# Altium footprint library lianche_noBOM_lib.PcbLib: 26 footprints (part 1 of 2)
Each footprint in its own frame and in the unit in brackets; x right, y up, seen from the top. Pads: shape width x height; smd on the part's side, far side on the other; paste and mask are expansions set on the pad; w line width, h text height; cw(c..) or ccw(c..) is an arc to the next point about the centre after c.
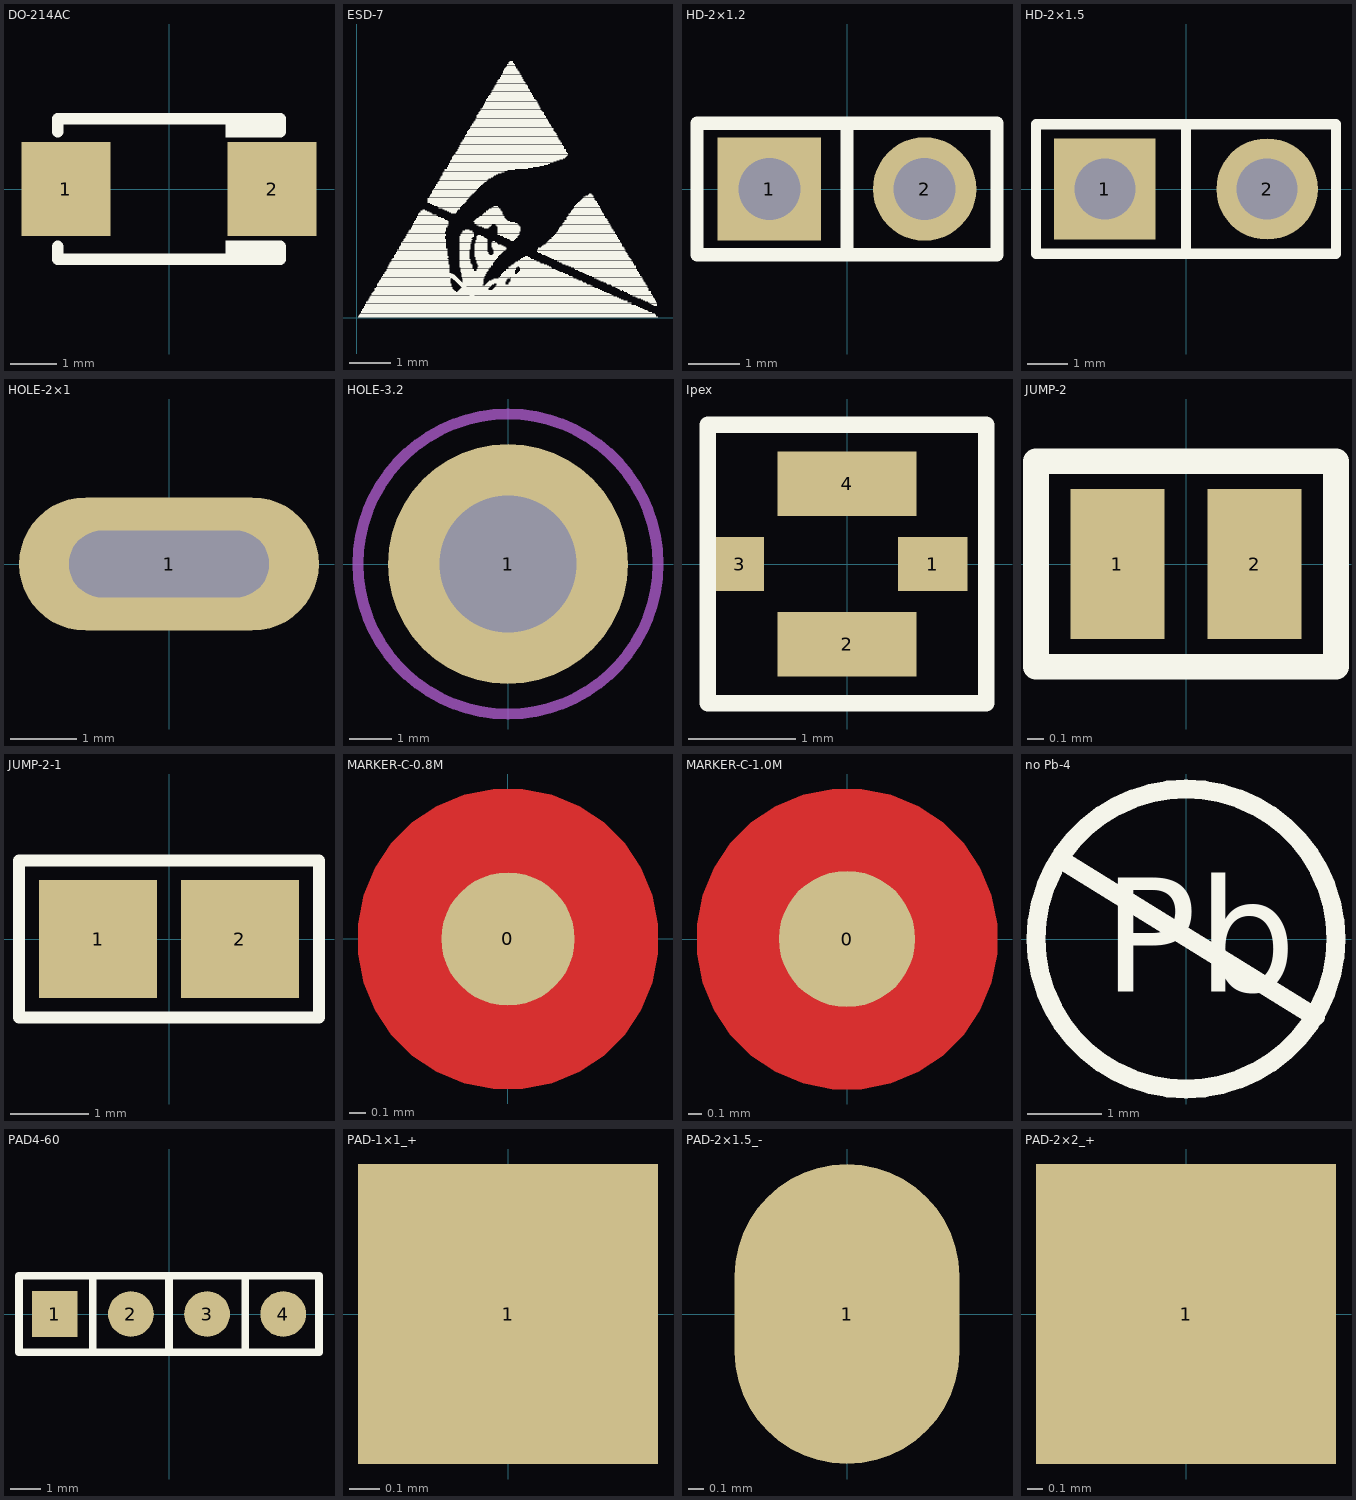
[diagram p0: the footprints below, top view; thin cyan lines are the x and y axes]

## DO-214AC [mil] "121025"
height 280
pads (2):
  rect 76x80 smd: 1(-88,0) 2(88,0)
Top Overlay:
  rectangle: 48,44.06 95,60.06
  rectangle: 48,-59.94 95,-43.94
  lines w10: -95,-49 -95,-60 95,-60 95,-49 ; -95,49 -95,60 95,60 95,49
3D body "DO-214AC.STEP": height 94.49, standoff 0, extent -91.52,-53.55 89.58,52.75

## ESD-7 [mil]
height 7.87
Top Overlay:
  drawing of 546 lines, arcs and shapes, not listed

## HD-2×1.2 [mm]
height 3
pads (2):
  rect 2x2 hole 1.2: 1(-1.5,0)
  round 2 hole 1.2: 2(1.5,0)
Top Overlay:
  lines w0.254: 0,-1.27 0,1.27 ; -2.9,-1.27 -2.9,1.27 2.9,1.27 2.9,-1.27 -2.9,-1.27

## HD-2×1.5 [mm]
height 3
pads (2):
  rect 2.5x2.5 hole 1.5: 1(-2,0)
  round 2.5 hole 1.5: 2(2,0)
Top Overlay:
  lines w0.254: 0,-1.6 0,1.6 ; -3.7,-1.6 3.7,-1.6 3.7,1.6 -3.7,1.6 -3.7,-1.6

## HOLE-2×1 [mm]
pads (1):
  oval 4.5x2 hole 1 slot 3 at 0 deg: 1(0,0)

## HOLE-3.2 [mm]
height 7.112
pads (1):
  round 5.6 hole 3.2: 1(0,0)
Mechanical 15:
  circle w0.254: c0,0 r3.5

## Ipex [mm]
pads (4):
  rect 0.65x0.5 smd: 1(0.8,0)
  rect 1.3x0.6 smd: 2(0,-0.75) 4(0,0.75)
  rect 0.45x0.5 smd: 3(-1,0)
Top Overlay:
  lines w0.15: -1.3,-1.3 -1.3,1.3 1.3,1.3 1.3,-1.3 -1.3,-1.3

## JUMP-2 [mil]
height 275.59
pads (2):
  rect 22x35 smd paste-23.62: 1(-16,0) 2(16,0)
Top Overlay:
  lines w6: -35,-24 35,-24 35,24 -35,24 -35,-24

## JUMP-2-1 [mm] "1.5"
height 1
pads (2):
  rect 1.5x1.5 smd paste-0.6: 1(-0.9,0) 2(0.9,0)
Top Overlay:
  lines w0.152: -1.905,-1 -1.905,1 1.905,1 1.905,-1 -1.905,-1

## MARKER-C-0.8M [mm]
height 1.1
pads (1):
  round 0.8 smd paste-1.016 mask+0.4: 0(0,0)
Top Layer:
  pour cut-out: -0.9,0 -0.9,-0.089 -0.865,-0.263 -0.798,-0.426 -0.699,-0.574 -0.574,-0.699 -0.426,-0.798 -0.263,-0.865 -0.089,-0.9 0,-0.9 0.089,-0.9 0.263,-0.865 0.426,-0.798 0.574,-0.699 0.699,-0.574 0.798,-0.426 0.865,-0.263 0.9,-0.089 0.9,0 0.9,0.089 0.865,0.263 0.798,0.426 0.699,0.574 0.574,0.699 0.426,0.798 0.263,0.865 0.089,0.9 0,0.9 -0.089,0.9 -0.263,0.865 -0.426,0.798 -0.574,0.699 -0.699,0.574 -0.798,0.426 -0.865,0.263 -0.9,0.089

## MARKER-C-1.0M [mm]
pads (1):
  round 1 smd paste-1.016 mask+0.5: 0(0,0)
Top Layer:
  pour cut-out: -1.1,0 -1.1,-0.108 -1.058,-0.321 -0.975,-0.521 -0.854,-0.701 -0.701,-0.854 -0.521,-0.975 -0.321,-1.058 -0.108,-1.1 0,-1.1 0.108,-1.1 0.321,-1.058 0.521,-0.975 0.701,-0.854 0.854,-0.701 0.975,-0.521 1.058,-0.321 1.1,-0.108 1.1,0 1.1,0.108 1.058,0.321 0.975,0.521 0.854,0.701 0.701,0.854 0.521,0.975 0.321,1.058 0.108,1.1 0,1.1 -0.108,1.1 -0.321,1.058 -0.521,0.975 -0.701,0.854 -0.854,0.701 -0.975,0.521 -1.058,0.321 -1.1,0.108

## no Pb-4 [mil]
height 7.87
Top Overlay:
  circle w10: c0,0 r80
  lines w10: -65.5,41.5 69,-41.5
  text "Pb" at -44.5,-28 h61

## PAD4-60 [mil]
pads (4):
  rect 60x60 smd paste+0: 1(-150,0)
  round 60 smd: 2(-50,0) 3(50,0) 4(150,0)
Top Overlay:
  lines w10: -100,-50 -100,50 ; 0,-50 0,50 ; 100,-50 100,50 ; -196.85,-50 -196.85,50 196.85,50 196.85,-50 -196.85,-50

## PAD-1×1_+ [mm]
pads (1):
  rect 1x1 smd: 1(0,0)

## PAD-2×1.5_- [mm]
pads (1):
  oval 1.5x2 smd: 1(0,0)

## PAD-2×2_+ [mm]
pads (1):
  rect 2x2 smd: 1(0,0)